# EAGLE library part 74*166 (library 74ttl-din)
8-bit parallel load SHIFT REGISTER
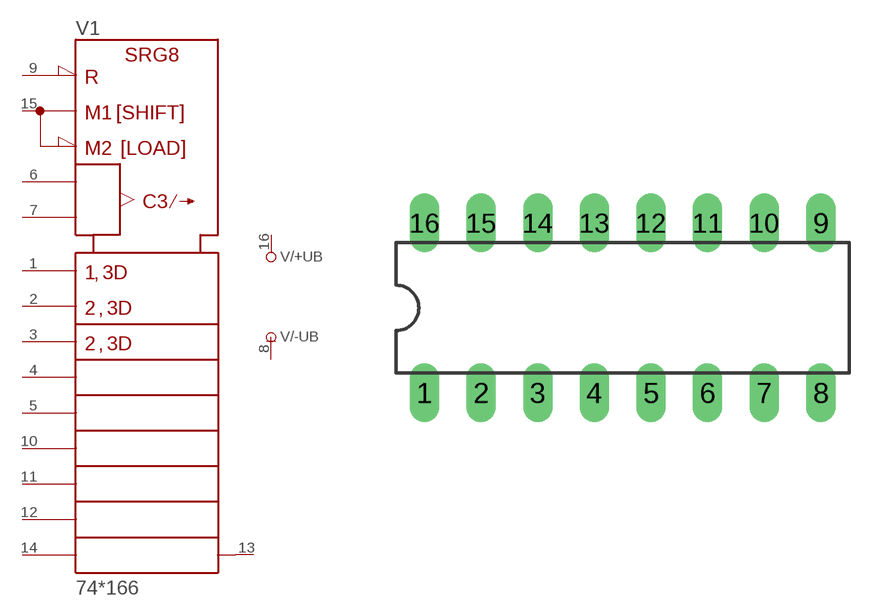
[diagram p53: symbol with the pads of DIL16; footprint DIL16]

Designator prefix V; gates /+UB=+UB /-UB=-UB 1=166

## 74166N  [DIL16]
1  1:SER  in
2  1:A  in
3  1:B  in
4  1:C  in
5  1:D  in
6  1:CLK_INH  in
7  1:CLK  in
8  /-UB:-UB  pwr
9  1:!CLR  in
10  1:E  in
11  1:F  in
12  1:G  in
13  1:QH  out
14  1:H  in
15  1:SH/!LD  in
16  /+UB:+UB  pwr

## Footprint DIL16 (pad centres in mm)
Dual In Line Package
drill 0.813 long: 1 -8.89,-3.81; 2 -6.35,-3.81; 3 -3.81,-3.81; 4 -1.27,-3.81; 5 1.27,-3.81; 6 3.81,-3.81; 7 6.35,-3.81; 8 8.89,-3.81; 9 8.89,3.81; 10 6.35,3.81; 11 3.81,3.81; 12 1.27,3.81; 13 -1.27,3.81; 14 -3.81,3.81; 15 -6.35,3.81; 16 -8.89,3.81